# Altium integrated library SN74LS90N.IntLib: 1 symbol
Pins are listed as number, name and electrical type; pins without a type are passive.

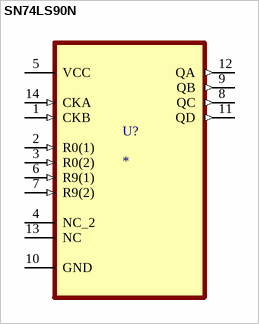
[diagram p0: symbol SN74LS90N]

## SN74LS90N
designator U?
Counter IC Counter, Decade 1 Element 4 Bit Negative Edge 14-SOIC; MF: Texas Instruments; MP: 74LS90; SnapEDA_Link: https://www.snapeda.com/parts/74LS90/Texas+Instruments/view-part/?ref=snap; Package: SOIC-14 Texas Instruments; Value: *; Check_prices: https://www.snapeda.com/parts/74LS90/Texas+Instruments/view-part/?ref=eda
footprint DIP254P762X508-14
pins: 1 CKB (in), 2 R0(1) (in), 3 R0(2) (in), 4 NC_2, 5 VCC (power), 6 R9(1) (in), 7 R9(2) (in), 8 QC (out), 9 QB (out), 10 GND, 11 QD (out), 12 QA (out), 13 NC, 14 CKA (in)